# Altium integrated library PLMR54410DBVR.IntLib: 2 symbols
Pins are listed as number, name and electrical type; pins without a type are passive.

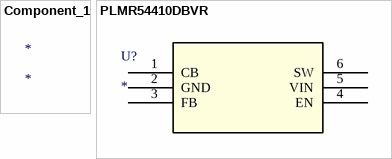
[diagram p0: symbols Component_1 to PLMR54410DBVR]

## Component_1
designator *

## PLMR54410DBVR
designator U?
No Description Available; Mfr_Name: Texas Instruments; RefDes: RefDes; Type: Type
footprint U_SOT-23_TEX
pins: 1 CB (power), 2 GND (power), 3 FB, 4 EN, 5 VIN (power), 6 SW (power)